# EAGLE library part DF13-9 (library Taylor)
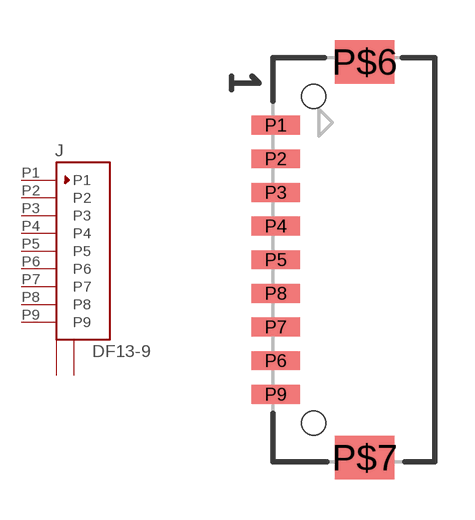
[diagram p30: symbol with the pads of DF13-9; footprint DF13-9]

Designator prefix J

## DF13-9  [DF13-9]
P1  P1
P2  P2
P3  P3
P4  P4
P5  P5
P6  P6
P7  P7
P8  P8
P9  P9
P$6  P$1
P$7  P$2

## Footprint DF13-9 (pad centres in mm)
smd 1.8 x 0.7: P1 -0.9,5; P2 -0.9,3.75; P3 -0.9,2.5; P4 -0.9,1.25; P5 -0.9,0; P6 -0.9,-3.75; P7 -0.9,-2.5; P8 -0.9,-1.25; P9 -0.9,-5
smd 2.2 x 1.6: P$6 2.4,7.35; P$7 2.4,-7.35
hole 0.9 at 0.5,6.075
hole 0.9 at 0.5,-6.075